# Altium schematic symbol library MCU_NXP_LPC.SchLib: 105 symbols (part 3 of 3)
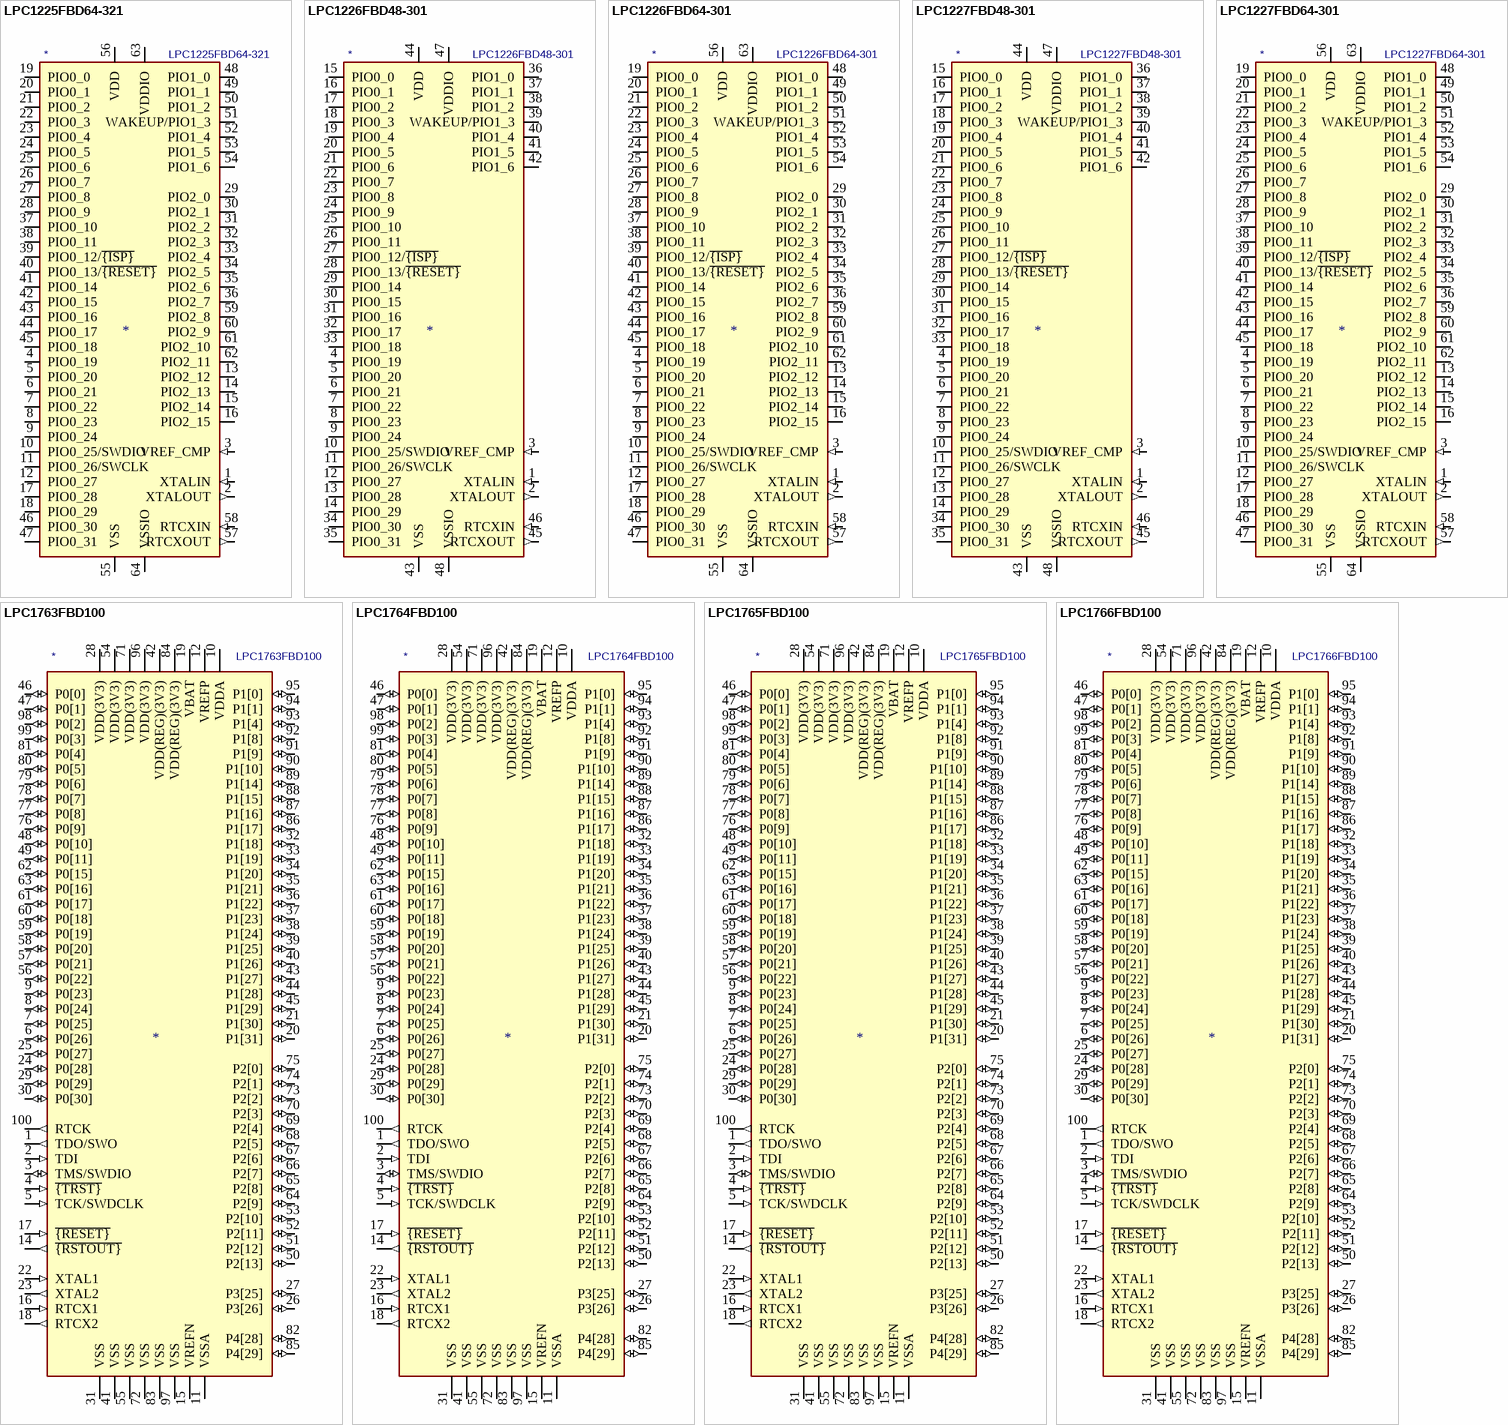
[diagram p9: symbols LPC1225FBD64-321 to LPC1766FBD100]

## LPC1763FBD100
designator *  value LPC1763FBD100
ki_keywords: ARM, 32-bit, Cortex-M3, M3, NXP, microcontroller; ki_description: 32-bit ARM Cortex-M3 microcontroller, 256KB flash, 64KB RAM; ki_fp_filters: *QFP*14x14mm*P0.5mm*; Footprint: Package_QFP:LQFP-100_14x14mm_P0.5mm; Supplier: http://www.nxp.com/documents/data_sheet/LPC1769_68_67_66_65_64_63.pdf
footprint LQFP-100_14x14mm_P0.5mm
pins: 1 TDO/SWO (out), 2 TDI (in), 3 TMS/SWDIO (io), 4 ~{{TRST}} (in), 5 TCK/SWDCLK (in), 6 P0[26] (io), 7 P0[25] (io), 8 P0[24] (io), 9 P0[23] (io), 10 VDDA (power), 11 VSSA (power), 12 VREFP (power), 13 NC (in) hidden, 14 ~{{RSTOUT}} (out), 15 VREFN (power), 16 RTCX1 (in), 17 ~{{RESET}} (in), 18 RTCX2 (out), 19 VBAT (power), 20 P1[31] (io), 21 P1[30] (io), 22 XTAL1 (in), 23 XTAL2 (out), 24 P0[28] (io), 25 P0[27] (io), 26 P3[26] (io), 27 P3[25] (io), 28 VDD(3V3) (power), 29 P0[29] (io), 30 P0[30] (io), 31 VSS (power), 32 P1[18] (io), 33 P1[19] (io), 34 P1[20] (io), 35 P1[21] (io), 36 P1[22] (io), 37 P1[23] (io), 38 P1[24] (io), 39 P1[25] (io), 40 P1[26] (io), 41 VSS (power), 42 VDD(REG)(3V3) (power), 43 P1[27] (io), 44 P1[28] (io), 45 P1[29] (io), 46 P0[0] (io), 47 P0[1] (io), 48 P0[10] (io), 49 P0[11] (io), 50 P2[13] (io), 51 P2[12] (io), 52 P2[11] (io), 53 P2[10] (io), 54 VDD(3V3) (power), 55 VSS (power), 56 P0[22] (io), 57 P0[21] (io), 58 P0[20] (io), 59 P0[19] (io), 60 P0[18] (io), 61 P0[17] (io), 62 P0[15] (io), 63 P0[16] (io), 64 P2[9] (io), 65 P2[8] (io), 66 P2[7] (io), 67 P2[6] (io), 68 P2[5] (io), 69 P2[4] (io), 70 P2[3] (io), 71 VDD(3V3) (power), 72 VSS (power), 73 P2[2] (io), 74 P2[1] (io), 75 P2[0] (io), 76 P0[9] (io), 77 P0[8] (io), 78 P0[7] (io), 79 P0[6] (io), 80 P0[5] (io), 81 P0[4] (io), 82 P4[28] (io), 83 VSS (power), 84 VDD(REG)(3V3) (power), 85 P4[29] (io), 86 P1[17] (io), 87 P1[16] (io), 88 P1[15] (io), 89 P1[14] (io), 90 P1[10] (io), 91 P1[9] (io), 92 P1[8] (io), 93 P1[4] (io), 94 P1[1] (io), 95 P1[0] (io), 96 VDD(3V3) (power), 97 VSS (power), 98 P0[2] (io), 99 P0[3] (io), 100 RTCK (out)

## LPC1764FBD100
designator *  value LPC1764FBD100
ki_keywords: ARM, 32-bit, Cortex-M3, M3, NXP, microcontroller; ki_description: 32-bit ARM Cortex-M3 microcontroller, 128KB flash, 32KB RAM, Ethernet, USB; ki_fp_filters: *QFP*14x14mm*P0.5mm*; Footprint: Package_QFP:LQFP-100_14x14mm_P0.5mm; Supplier: http://www.nxp.com/documents/data_sheet/LPC1769_68_67_66_65_64_63.pdf
footprint LQFP-100_14x14mm_P0.5mm
pins: 1 TDO/SWO (out), 2 TDI (in), 3 TMS/SWDIO (io), 4 ~{{TRST}} (in), 5 TCK/SWDCLK (in), 6 P0[26] (io), 7 P0[25] (io), 8 P0[24] (io), 9 P0[23] (io), 10 VDDA (power), 11 VSSA (power), 12 VREFP (power), 13 NC (in) hidden, 14 ~{{RSTOUT}} (out), 15 VREFN (power), 16 RTCX1 (in), 17 ~{{RESET}} (in), 18 RTCX2 (out), 19 VBAT (power), 20 P1[31] (io), 21 P1[30] (io), 22 XTAL1 (in), 23 XTAL2 (out), 24 P0[28] (io), 25 P0[27] (io), 26 P3[26] (io), 27 P3[25] (io), 28 VDD(3V3) (power), 29 P0[29] (io), 30 P0[30] (io), 31 VSS (power), 32 P1[18] (io), 33 P1[19] (io), 34 P1[20] (io), 35 P1[21] (io), 36 P1[22] (io), 37 P1[23] (io), 38 P1[24] (io), 39 P1[25] (io), 40 P1[26] (io), 41 VSS (power), 42 VDD(REG)(3V3) (power), 43 P1[27] (io), 44 P1[28] (io), 45 P1[29] (io), 46 P0[0] (io), 47 P0[1] (io), 48 P0[10] (io), 49 P0[11] (io), 50 P2[13] (io), 51 P2[12] (io), 52 P2[11] (io), 53 P2[10] (io), 54 VDD(3V3) (power), 55 VSS (power), 56 P0[22] (io), 57 P0[21] (io), 58 P0[20] (io), 59 P0[19] (io), 60 P0[18] (io), 61 P0[17] (io), 62 P0[15] (io), 63 P0[16] (io), 64 P2[9] (io), 65 P2[8] (io), 66 P2[7] (io), 67 P2[6] (io), 68 P2[5] (io), 69 P2[4] (io), 70 P2[3] (io), 71 VDD(3V3) (power), 72 VSS (power), 73 P2[2] (io), 74 P2[1] (io), 75 P2[0] (io), 76 P0[9] (io), 77 P0[8] (io), 78 P0[7] (io), 79 P0[6] (io), 80 P0[5] (io), 81 P0[4] (io), 82 P4[28] (io), 83 VSS (power), 84 VDD(REG)(3V3) (power), 85 P4[29] (io), 86 P1[17] (io), 87 P1[16] (io), 88 P1[15] (io), 89 P1[14] (io), 90 P1[10] (io), 91 P1[9] (io), 92 P1[8] (io), 93 P1[4] (io), 94 P1[1] (io), 95 P1[0] (io), 96 VDD(3V3) (power), 97 VSS (power), 98 P0[2] (io), 99 P0[3] (io), 100 RTCK (out)

## LPC1765FBD100
designator *  value LPC1765FBD100
ki_keywords: ARM, 32-bit, Cortex-M3, M3, NXP, microcontroller; ki_description: 32-bit ARM Cortex-M3 microcontroller, 256KB flash, 64KB RAM, USB; ki_fp_filters: *QFP*14x14mm*P0.5mm*; Footprint: Package_QFP:LQFP-100_14x14mm_P0.5mm; Supplier: http://www.nxp.com/documents/data_sheet/LPC1769_68_67_66_65_64_63.pdf
footprint LQFP-100_14x14mm_P0.5mm
pins: 1 TDO/SWO (out), 2 TDI (in), 3 TMS/SWDIO (io), 4 ~{{TRST}} (in), 5 TCK/SWDCLK (in), 6 P0[26] (io), 7 P0[25] (io), 8 P0[24] (io), 9 P0[23] (io), 10 VDDA (power), 11 VSSA (power), 12 VREFP (power), 13 NC (in) hidden, 14 ~{{RSTOUT}} (out), 15 VREFN (power), 16 RTCX1 (in), 17 ~{{RESET}} (in), 18 RTCX2 (out), 19 VBAT (power), 20 P1[31] (io), 21 P1[30] (io), 22 XTAL1 (in), 23 XTAL2 (out), 24 P0[28] (io), 25 P0[27] (io), 26 P3[26] (io), 27 P3[25] (io), 28 VDD(3V3) (power), 29 P0[29] (io), 30 P0[30] (io), 31 VSS (power), 32 P1[18] (io), 33 P1[19] (io), 34 P1[20] (io), 35 P1[21] (io), 36 P1[22] (io), 37 P1[23] (io), 38 P1[24] (io), 39 P1[25] (io), 40 P1[26] (io), 41 VSS (power), 42 VDD(REG)(3V3) (power), 43 P1[27] (io), 44 P1[28] (io), 45 P1[29] (io), 46 P0[0] (io), 47 P0[1] (io), 48 P0[10] (io), 49 P0[11] (io), 50 P2[13] (io), 51 P2[12] (io), 52 P2[11] (io), 53 P2[10] (io), 54 VDD(3V3) (power), 55 VSS (power), 56 P0[22] (io), 57 P0[21] (io), 58 P0[20] (io), 59 P0[19] (io), 60 P0[18] (io), 61 P0[17] (io), 62 P0[15] (io), 63 P0[16] (io), 64 P2[9] (io), 65 P2[8] (io), 66 P2[7] (io), 67 P2[6] (io), 68 P2[5] (io), 69 P2[4] (io), 70 P2[3] (io), 71 VDD(3V3) (power), 72 VSS (power), 73 P2[2] (io), 74 P2[1] (io), 75 P2[0] (io), 76 P0[9] (io), 77 P0[8] (io), 78 P0[7] (io), 79 P0[6] (io), 80 P0[5] (io), 81 P0[4] (io), 82 P4[28] (io), 83 VSS (power), 84 VDD(REG)(3V3) (power), 85 P4[29] (io), 86 P1[17] (io), 87 P1[16] (io), 88 P1[15] (io), 89 P1[14] (io), 90 P1[10] (io), 91 P1[9] (io), 92 P1[8] (io), 93 P1[4] (io), 94 P1[1] (io), 95 P1[0] (io), 96 VDD(3V3) (power), 97 VSS (power), 98 P0[2] (io), 99 P0[3] (io), 100 RTCK (out)

## LPC1766FBD100
designator *  value LPC1766FBD100
ki_keywords: ARM, 32-bit, Cortex-M3, M3, NXP, microcontroller; ki_description: 32-bit ARM Cortex-M3 microcontroller, 256KB flash, 64KB RAM, Ethernet, USB; ki_fp_filters: *QFP*14x14mm*P0.5mm*; Footprint: Package_QFP:LQFP-100_14x14mm_P0.5mm; Supplier: http://www.nxp.com/documents/data_sheet/LPC1769_68_67_66_65_64_63.pdf
footprint LQFP-100_14x14mm_P0.5mm
pins: 1 TDO/SWO (out), 2 TDI (in), 3 TMS/SWDIO (io), 4 ~{{TRST}} (in), 5 TCK/SWDCLK (in), 6 P0[26] (io), 7 P0[25] (io), 8 P0[24] (io), 9 P0[23] (io), 10 VDDA (power), 11 VSSA (power), 12 VREFP (power), 13 NC (in) hidden, 14 ~{{RSTOUT}} (out), 15 VREFN (power), 16 RTCX1 (in), 17 ~{{RESET}} (in), 18 RTCX2 (out), 19 VBAT (power), 20 P1[31] (io), 21 P1[30] (io), 22 XTAL1 (in), 23 XTAL2 (out), 24 P0[28] (io), 25 P0[27] (io), 26 P3[26] (io), 27 P3[25] (io), 28 VDD(3V3) (power), 29 P0[29] (io), 30 P0[30] (io), 31 VSS (power), 32 P1[18] (io), 33 P1[19] (io), 34 P1[20] (io), 35 P1[21] (io), 36 P1[22] (io), 37 P1[23] (io), 38 P1[24] (io), 39 P1[25] (io), 40 P1[26] (io), 41 VSS (power), 42 VDD(REG)(3V3) (power), 43 P1[27] (io), 44 P1[28] (io), 45 P1[29] (io), 46 P0[0] (io), 47 P0[1] (io), 48 P0[10] (io), 49 P0[11] (io), 50 P2[13] (io), 51 P2[12] (io), 52 P2[11] (io), 53 P2[10] (io), 54 VDD(3V3) (power), 55 VSS (power), 56 P0[22] (io), 57 P0[21] (io), 58 P0[20] (io), 59 P0[19] (io), 60 P0[18] (io), 61 P0[17] (io), 62 P0[15] (io), 63 P0[16] (io), 64 P2[9] (io), 65 P2[8] (io), 66 P2[7] (io), 67 P2[6] (io), 68 P2[5] (io), 69 P2[4] (io), 70 P2[3] (io), 71 VDD(3V3) (power), 72 VSS (power), 73 P2[2] (io), 74 P2[1] (io), 75 P2[0] (io), 76 P0[9] (io), 77 P0[8] (io), 78 P0[7] (io), 79 P0[6] (io), 80 P0[5] (io), 81 P0[4] (io), 82 P4[28] (io), 83 VSS (power), 84 VDD(REG)(3V3) (power), 85 P4[29] (io), 86 P1[17] (io), 87 P1[16] (io), 88 P1[15] (io), 89 P1[14] (io), 90 P1[10] (io), 91 P1[9] (io), 92 P1[8] (io), 93 P1[4] (io), 94 P1[1] (io), 95 P1[0] (io), 96 VDD(3V3) (power), 97 VSS (power), 98 P0[2] (io), 99 P0[3] (io), 100 RTCK (out)

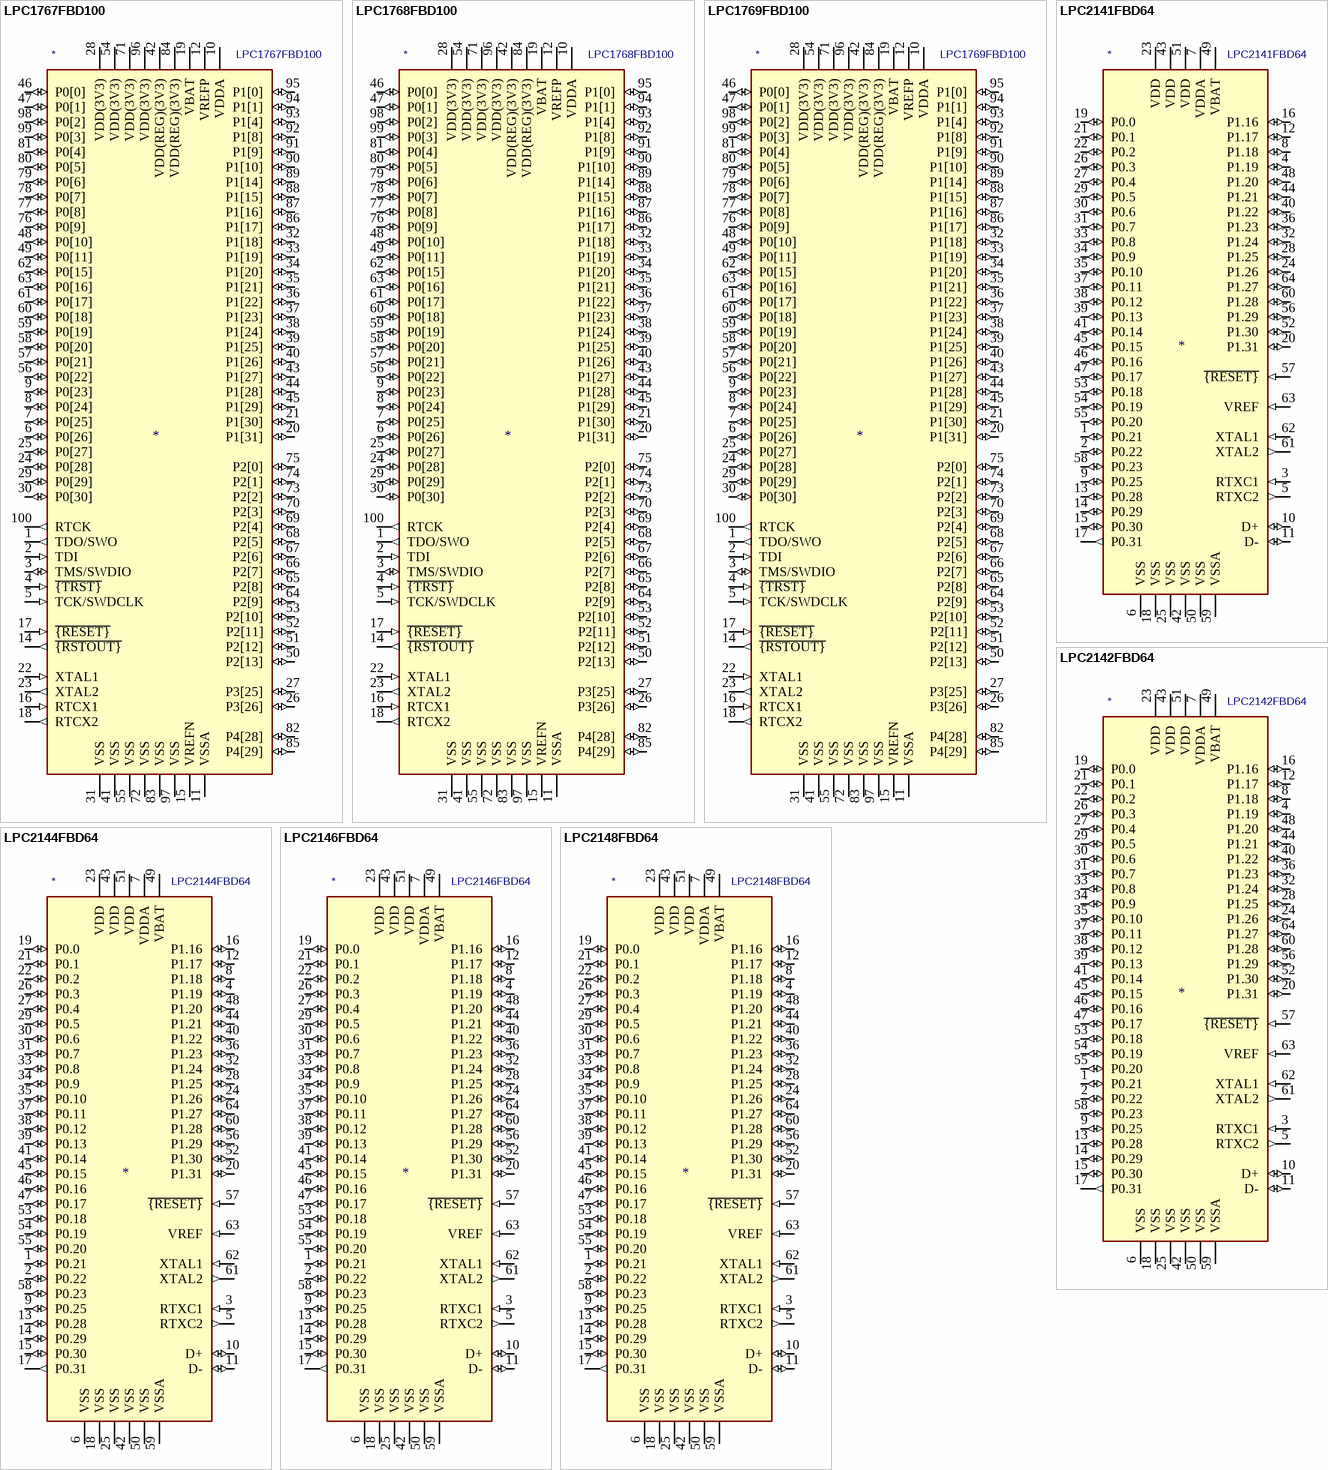
[diagram p7: symbols LPC1767FBD100 to LPC2148FBD64]

## LPC1767FBD100
designator *  value LPC1767FBD100
ki_keywords: ARM, 32-bit, Cortex-M3, M3, NXP, microcontroller; ki_description: 32-bit ARM Cortex-M3 microcontroller, 512KB flash, 64KB RAM, Ethernet; ki_fp_filters: *QFP*14x14mm*P0.5mm*; Footprint: Package_QFP:LQFP-100_14x14mm_P0.5mm; Supplier: http://www.nxp.com/documents/data_sheet/LPC1769_68_67_66_65_64_63.pdf
footprint LQFP-100_14x14mm_P0.5mm
pins: 1 TDO/SWO (out), 2 TDI (in), 3 TMS/SWDIO (io), 4 ~{{TRST}} (in), 5 TCK/SWDCLK (in), 6 P0[26] (io), 7 P0[25] (io), 8 P0[24] (io), 9 P0[23] (io), 10 VDDA (power), 11 VSSA (power), 12 VREFP (power), 13 NC (in) hidden, 14 ~{{RSTOUT}} (out), 15 VREFN (power), 16 RTCX1 (in), 17 ~{{RESET}} (in), 18 RTCX2 (out), 19 VBAT (power), 20 P1[31] (io), 21 P1[30] (io), 22 XTAL1 (in), 23 XTAL2 (out), 24 P0[28] (io), 25 P0[27] (io), 26 P3[26] (io), 27 P3[25] (io), 28 VDD(3V3) (power), 29 P0[29] (io), 30 P0[30] (io), 31 VSS (power), 32 P1[18] (io), 33 P1[19] (io), 34 P1[20] (io), 35 P1[21] (io), 36 P1[22] (io), 37 P1[23] (io), 38 P1[24] (io), 39 P1[25] (io), 40 P1[26] (io), 41 VSS (power), 42 VDD(REG)(3V3) (power), 43 P1[27] (io), 44 P1[28] (io), 45 P1[29] (io), 46 P0[0] (io), 47 P0[1] (io), 48 P0[10] (io), 49 P0[11] (io), 50 P2[13] (io), 51 P2[12] (io), 52 P2[11] (io), 53 P2[10] (io), 54 VDD(3V3) (power), 55 VSS (power), 56 P0[22] (io), 57 P0[21] (io), 58 P0[20] (io), 59 P0[19] (io), 60 P0[18] (io), 61 P0[17] (io), 62 P0[15] (io), 63 P0[16] (io), 64 P2[9] (io), 65 P2[8] (io), 66 P2[7] (io), 67 P2[6] (io), 68 P2[5] (io), 69 P2[4] (io), 70 P2[3] (io), 71 VDD(3V3) (power), 72 VSS (power), 73 P2[2] (io), 74 P2[1] (io), 75 P2[0] (io), 76 P0[9] (io), 77 P0[8] (io), 78 P0[7] (io), 79 P0[6] (io), 80 P0[5] (io), 81 P0[4] (io), 82 P4[28] (io), 83 VSS (power), 84 VDD(REG)(3V3) (power), 85 P4[29] (io), 86 P1[17] (io), 87 P1[16] (io), 88 P1[15] (io), 89 P1[14] (io), 90 P1[10] (io), 91 P1[9] (io), 92 P1[8] (io), 93 P1[4] (io), 94 P1[1] (io), 95 P1[0] (io), 96 VDD(3V3) (power), 97 VSS (power), 98 P0[2] (io), 99 P0[3] (io), 100 RTCK (out)

## LPC1768FBD100
designator *  value LPC1768FBD100
ki_keywords: ARM, 32-bit, Cortex-M3, M3, NXP, microcontroller; ki_description: 32-bit ARM Cortex-M3 microcontroller, 512KB flash, 64KB RAM, Ethernet, USB; ki_fp_filters: *QFP*14x14mm*P0.5mm*; Footprint: Package_QFP:LQFP-100_14x14mm_P0.5mm; Supplier: http://www.nxp.com/documents/data_sheet/LPC1769_68_67_66_65_64_63.pdf
footprint LQFP-100_14x14mm_P0.5mm
pins: 1 TDO/SWO (out), 2 TDI (in), 3 TMS/SWDIO (io), 4 ~{{TRST}} (in), 5 TCK/SWDCLK (in), 6 P0[26] (io), 7 P0[25] (io), 8 P0[24] (io), 9 P0[23] (io), 10 VDDA (power), 11 VSSA (power), 12 VREFP (power), 13 NC (in) hidden, 14 ~{{RSTOUT}} (out), 15 VREFN (power), 16 RTCX1 (in), 17 ~{{RESET}} (in), 18 RTCX2 (out), 19 VBAT (power), 20 P1[31] (io), 21 P1[30] (io), 22 XTAL1 (in), 23 XTAL2 (out), 24 P0[28] (io), 25 P0[27] (io), 26 P3[26] (io), 27 P3[25] (io), 28 VDD(3V3) (power), 29 P0[29] (io), 30 P0[30] (io), 31 VSS (power), 32 P1[18] (io), 33 P1[19] (io), 34 P1[20] (io), 35 P1[21] (io), 36 P1[22] (io), 37 P1[23] (io), 38 P1[24] (io), 39 P1[25] (io), 40 P1[26] (io), 41 VSS (power), 42 VDD(REG)(3V3) (power), 43 P1[27] (io), 44 P1[28] (io), 45 P1[29] (io), 46 P0[0] (io), 47 P0[1] (io), 48 P0[10] (io), 49 P0[11] (io), 50 P2[13] (io), 51 P2[12] (io), 52 P2[11] (io), 53 P2[10] (io), 54 VDD(3V3) (power), 55 VSS (power), 56 P0[22] (io), 57 P0[21] (io), 58 P0[20] (io), 59 P0[19] (io), 60 P0[18] (io), 61 P0[17] (io), 62 P0[15] (io), 63 P0[16] (io), 64 P2[9] (io), 65 P2[8] (io), 66 P2[7] (io), 67 P2[6] (io), 68 P2[5] (io), 69 P2[4] (io), 70 P2[3] (io), 71 VDD(3V3) (power), 72 VSS (power), 73 P2[2] (io), 74 P2[1] (io), 75 P2[0] (io), 76 P0[9] (io), 77 P0[8] (io), 78 P0[7] (io), 79 P0[6] (io), 80 P0[5] (io), 81 P0[4] (io), 82 P4[28] (io), 83 VSS (power), 84 VDD(REG)(3V3) (power), 85 P4[29] (io), 86 P1[17] (io), 87 P1[16] (io), 88 P1[15] (io), 89 P1[14] (io), 90 P1[10] (io), 91 P1[9] (io), 92 P1[8] (io), 93 P1[4] (io), 94 P1[1] (io), 95 P1[0] (io), 96 VDD(3V3) (power), 97 VSS (power), 98 P0[2] (io), 99 P0[3] (io), 100 RTCK (out)

## LPC1769FBD100
designator *  value LPC1769FBD100
ki_keywords: ARM, 32-bit, Cortex-M3, M3, NXP, microcontroller; ki_description: 32-bit ARM Cortex-M3 microcontroller, 512KB flash, 64KB RAM, Ethernet, USB; ki_fp_filters: *QFP*14x14mm*P0.5mm*; Footprint: Package_QFP:LQFP-100_14x14mm_P0.5mm; Supplier: http://www.nxp.com/documents/data_sheet/LPC1769_68_67_66_65_64_63.pdf
footprint LQFP-100_14x14mm_P0.5mm
pins: 1 TDO/SWO (out), 2 TDI (in), 3 TMS/SWDIO (io), 4 ~{{TRST}} (in), 5 TCK/SWDCLK (in), 6 P0[26] (io), 7 P0[25] (io), 8 P0[24] (io), 9 P0[23] (io), 10 VDDA (power), 11 VSSA (power), 12 VREFP (power), 13 NC (in) hidden, 14 ~{{RSTOUT}} (out), 15 VREFN (power), 16 RTCX1 (in), 17 ~{{RESET}} (in), 18 RTCX2 (out), 19 VBAT (power), 20 P1[31] (io), 21 P1[30] (io), 22 XTAL1 (in), 23 XTAL2 (out), 24 P0[28] (io), 25 P0[27] (io), 26 P3[26] (io), 27 P3[25] (io), 28 VDD(3V3) (power), 29 P0[29] (io), 30 P0[30] (io), 31 VSS (power), 32 P1[18] (io), 33 P1[19] (io), 34 P1[20] (io), 35 P1[21] (io), 36 P1[22] (io), 37 P1[23] (io), 38 P1[24] (io), 39 P1[25] (io), 40 P1[26] (io), 41 VSS (power), 42 VDD(REG)(3V3) (power), 43 P1[27] (io), 44 P1[28] (io), 45 P1[29] (io), 46 P0[0] (io), 47 P0[1] (io), 48 P0[10] (io), 49 P0[11] (io), 50 P2[13] (io), 51 P2[12] (io), 52 P2[11] (io), 53 P2[10] (io), 54 VDD(3V3) (power), 55 VSS (power), 56 P0[22] (io), 57 P0[21] (io), 58 P0[20] (io), 59 P0[19] (io), 60 P0[18] (io), 61 P0[17] (io), 62 P0[15] (io), 63 P0[16] (io), 64 P2[9] (io), 65 P2[8] (io), 66 P2[7] (io), 67 P2[6] (io), 68 P2[5] (io), 69 P2[4] (io), 70 P2[3] (io), 71 VDD(3V3) (power), 72 VSS (power), 73 P2[2] (io), 74 P2[1] (io), 75 P2[0] (io), 76 P0[9] (io), 77 P0[8] (io), 78 P0[7] (io), 79 P0[6] (io), 80 P0[5] (io), 81 P0[4] (io), 82 P4[28] (io), 83 VSS (power), 84 VDD(REG)(3V3) (power), 85 P4[29] (io), 86 P1[17] (io), 87 P1[16] (io), 88 P1[15] (io), 89 P1[14] (io), 90 P1[10] (io), 91 P1[9] (io), 92 P1[8] (io), 93 P1[4] (io), 94 P1[1] (io), 95 P1[0] (io), 96 VDD(3V3) (power), 97 VSS (power), 98 P0[2] (io), 99 P0[3] (io), 100 RTCK (out)

## LPC2141FBD64
designator *  value LPC2141FBD64
ki_keywords: ARM, 16-bit, 32-bit, ARM7, NXP, microcontroller; ki_description: 16-bit/32-bit ARM7TDMI-S microcontroller, 32kB flash, 8kB RAM; ki_fp_filters: *LQFP*10x10mm*P0.5mm*; Footprint: Package_QFP:LQFP-64_10x10mm_P0.5mm; Supplier: http://www.nxp.com/documents/data_sheet/LPC2141_42_44_46_48.pdf
footprint LQFP-64_10x10mm_P0.5mm
pins: 1 P0.21 (io), 2 P0.22 (io), 3 RTXC1 (in), 4 P1.19 (io), 5 RTXC2 (out), 6 VSS (power), 7 VDDA (power), 8 P1.18 (io), 9 P0.25 (io), 10 D+ (io), 11 D- (io), 12 P1.17 (io), 13 P0.28 (io), 14 P0.29 (io), 15 P0.30 (io), 16 P1.16 (io), 17 P0.31 (out), 18 VSS (power), 19 P0.0 (io), 20 P1.31 (io), 21 P0.1 (io), 22 P0.2 (io), 23 VDD (power), 24 P1.26 (io), 25 VSS (power), 26 P0.3 (io), 27 P0.4 (io), 28 P1.25 (io), 29 P0.5 (io), 30 P0.6 (io), 31 P0.7 (io), 32 P1.24 (io), 33 P0.8 (io), 34 P0.9 (io), 35 P0.10 (io), 36 P1.23 (io), 37 P0.11 (io), 38 P0.12 (io), 39 P0.13 (io), 40 P1.22 (io), 41 P0.14 (io), 42 VSS (power), 43 VDD (power), 44 P1.21 (io), 45 P0.15 (io), 46 P0.16 (io), 47 P0.17 (io), 48 P1.20 (io), 49 VBAT (power), 50 VSS (power), 51 VDD (power), 52 P1.30 (io), 53 P0.18 (io), 54 P0.19 (io), 55 P0.20 (io), 56 P1.29 (io), 57 ~{{RESET}} (in), 58 P0.23 (io), 59 VSSA (power), 60 P1.28 (io), 61 XTAL2 (out), 62 XTAL1 (in), 63 VREF (in), 64 P1.27 (io)

## LPC2142FBD64
designator *  value LPC2142FBD64
ki_keywords: ARM, 16-bit, 32-bit, ARM7, NXP, microcontroller; ki_description: 16-bit/32-bit ARM7TDMI-S microcontroller, 64kB flash, 16kB RAM; ki_fp_filters: *LQFP*10x10mm*P0.5mm*; Footprint: Package_QFP:LQFP-64_10x10mm_P0.5mm; Supplier: http://www.nxp.com/documents/data_sheet/LPC2141_42_44_46_48.pdf
footprint LQFP-64_10x10mm_P0.5mm
pins: 1 P0.21 (io), 2 P0.22 (io), 3 RTXC1 (in), 4 P1.19 (io), 5 RTXC2 (out), 6 VSS (power), 7 VDDA (power), 8 P1.18 (io), 9 P0.25 (io), 10 D+ (io), 11 D- (io), 12 P1.17 (io), 13 P0.28 (io), 14 P0.29 (io), 15 P0.30 (io), 16 P1.16 (io), 17 P0.31 (out), 18 VSS (power), 19 P0.0 (io), 20 P1.31 (io), 21 P0.1 (io), 22 P0.2 (io), 23 VDD (power), 24 P1.26 (io), 25 VSS (power), 26 P0.3 (io), 27 P0.4 (io), 28 P1.25 (io), 29 P0.5 (io), 30 P0.6 (io), 31 P0.7 (io), 32 P1.24 (io), 33 P0.8 (io), 34 P0.9 (io), 35 P0.10 (io), 36 P1.23 (io), 37 P0.11 (io), 38 P0.12 (io), 39 P0.13 (io), 40 P1.22 (io), 41 P0.14 (io), 42 VSS (power), 43 VDD (power), 44 P1.21 (io), 45 P0.15 (io), 46 P0.16 (io), 47 P0.17 (io), 48 P1.20 (io), 49 VBAT (power), 50 VSS (power), 51 VDD (power), 52 P1.30 (io), 53 P0.18 (io), 54 P0.19 (io), 55 P0.20 (io), 56 P1.29 (io), 57 ~{{RESET}} (in), 58 P0.23 (io), 59 VSSA (power), 60 P1.28 (io), 61 XTAL2 (out), 62 XTAL1 (in), 63 VREF (in), 64 P1.27 (io)

## LPC2144FBD64
designator *  value LPC2144FBD64
ki_keywords: ARM, 16-bit, 32-bit, ARM7, NXP, microcontroller; ki_description: 16-bit/32-bit ARM7TDMI-S microcontroller, 128kB flash, 16kB RAM; ki_fp_filters: *LQFP*10x10mm*P0.5mm*; Footprint: Package_QFP:LQFP-64_10x10mm_P0.5mm; Supplier: http://www.nxp.com/documents/data_sheet/LPC2141_42_44_46_48.pdf
footprint LQFP-64_10x10mm_P0.5mm
pins: 1 P0.21 (io), 2 P0.22 (io), 3 RTXC1 (in), 4 P1.19 (io), 5 RTXC2 (out), 6 VSS (power), 7 VDDA (power), 8 P1.18 (io), 9 P0.25 (io), 10 D+ (io), 11 D- (io), 12 P1.17 (io), 13 P0.28 (io), 14 P0.29 (io), 15 P0.30 (io), 16 P1.16 (io), 17 P0.31 (out), 18 VSS (power), 19 P0.0 (io), 20 P1.31 (io), 21 P0.1 (io), 22 P0.2 (io), 23 VDD (power), 24 P1.26 (io), 25 VSS (power), 26 P0.3 (io), 27 P0.4 (io), 28 P1.25 (io), 29 P0.5 (io), 30 P0.6 (io), 31 P0.7 (io), 32 P1.24 (io), 33 P0.8 (io), 34 P0.9 (io), 35 P0.10 (io), 36 P1.23 (io), 37 P0.11 (io), 38 P0.12 (io), 39 P0.13 (io), 40 P1.22 (io), 41 P0.14 (io), 42 VSS (power), 43 VDD (power), 44 P1.21 (io), 45 P0.15 (io), 46 P0.16 (io), 47 P0.17 (io), 48 P1.20 (io), 49 VBAT (power), 50 VSS (power), 51 VDD (power), 52 P1.30 (io), 53 P0.18 (io), 54 P0.19 (io), 55 P0.20 (io), 56 P1.29 (io), 57 ~{{RESET}} (in), 58 P0.23 (io), 59 VSSA (power), 60 P1.28 (io), 61 XTAL2 (out), 62 XTAL1 (in), 63 VREF (in), 64 P1.27 (io)

## LPC2146FBD64
designator *  value LPC2146FBD64
ki_keywords: ARM, 16-bit, 32-bit, ARM7, NXP, microcontroller; ki_description: 16-bit/32-bit ARM7TDMI-S microcontroller, 256kB flash, 40kB RAM; ki_fp_filters: *LQFP*10x10mm*P0.5mm*; Footprint: Package_QFP:LQFP-64_10x10mm_P0.5mm; Supplier: http://www.nxp.com/documents/data_sheet/LPC2141_42_44_46_48.pdf
footprint LQFP-64_10x10mm_P0.5mm
pins: 1 P0.21 (io), 2 P0.22 (io), 3 RTXC1 (in), 4 P1.19 (io), 5 RTXC2 (out), 6 VSS (power), 7 VDDA (power), 8 P1.18 (io), 9 P0.25 (io), 10 D+ (io), 11 D- (io), 12 P1.17 (io), 13 P0.28 (io), 14 P0.29 (io), 15 P0.30 (io), 16 P1.16 (io), 17 P0.31 (out), 18 VSS (power), 19 P0.0 (io), 20 P1.31 (io), 21 P0.1 (io), 22 P0.2 (io), 23 VDD (power), 24 P1.26 (io), 25 VSS (power), 26 P0.3 (io), 27 P0.4 (io), 28 P1.25 (io), 29 P0.5 (io), 30 P0.6 (io), 31 P0.7 (io), 32 P1.24 (io), 33 P0.8 (io), 34 P0.9 (io), 35 P0.10 (io), 36 P1.23 (io), 37 P0.11 (io), 38 P0.12 (io), 39 P0.13 (io), 40 P1.22 (io), 41 P0.14 (io), 42 VSS (power), 43 VDD (power), 44 P1.21 (io), 45 P0.15 (io), 46 P0.16 (io), 47 P0.17 (io), 48 P1.20 (io), 49 VBAT (power), 50 VSS (power), 51 VDD (power), 52 P1.30 (io), 53 P0.18 (io), 54 P0.19 (io), 55 P0.20 (io), 56 P1.29 (io), 57 ~{{RESET}} (in), 58 P0.23 (io), 59 VSSA (power), 60 P1.28 (io), 61 XTAL2 (out), 62 XTAL1 (in), 63 VREF (in), 64 P1.27 (io)

## LPC2148FBD64
designator *  value LPC2148FBD64
ki_keywords: ARM, 16-bit, 32-bit, ARM7, NXP, microcontroller; ki_description: 16-bit/32-bit ARM7TDMI-S microcontroller, 512kB flash, 40kB RAM; ki_fp_filters: *LQFP*10x10mm*P0.5mm*; Footprint: Package_QFP:LQFP-64_10x10mm_P0.5mm; Supplier: http://www.nxp.com/documents/data_sheet/LPC2141_42_44_46_48.pdf
footprint LQFP-64_10x10mm_P0.5mm
pins: 1 P0.21 (io), 2 P0.22 (io), 3 RTXC1 (in), 4 P1.19 (io), 5 RTXC2 (out), 6 VSS (power), 7 VDDA (power), 8 P1.18 (io), 9 P0.25 (io), 10 D+ (io), 11 D- (io), 12 P1.17 (io), 13 P0.28 (io), 14 P0.29 (io), 15 P0.30 (io), 16 P1.16 (io), 17 P0.31 (out), 18 VSS (power), 19 P0.0 (io), 20 P1.31 (io), 21 P0.1 (io), 22 P0.2 (io), 23 VDD (power), 24 P1.26 (io), 25 VSS (power), 26 P0.3 (io), 27 P0.4 (io), 28 P1.25 (io), 29 P0.5 (io), 30 P0.6 (io), 31 P0.7 (io), 32 P1.24 (io), 33 P0.8 (io), 34 P0.9 (io), 35 P0.10 (io), 36 P1.23 (io), 37 P0.11 (io), 38 P0.12 (io), 39 P0.13 (io), 40 P1.22 (io), 41 P0.14 (io), 42 VSS (power), 43 VDD (power), 44 P1.21 (io), 45 P0.15 (io), 46 P0.16 (io), 47 P0.17 (io), 48 P1.20 (io), 49 VBAT (power), 50 VSS (power), 51 VDD (power), 52 P1.30 (io), 53 P0.18 (io), 54 P0.19 (io), 55 P0.20 (io), 56 P1.29 (io), 57 ~{{RESET}} (in), 58 P0.23 (io), 59 VSSA (power), 60 P1.28 (io), 61 XTAL2 (out), 62 XTAL1 (in), 63 VREF (in), 64 P1.27 (io)